# EAGLE library part USB-UART (library mastrogippo)
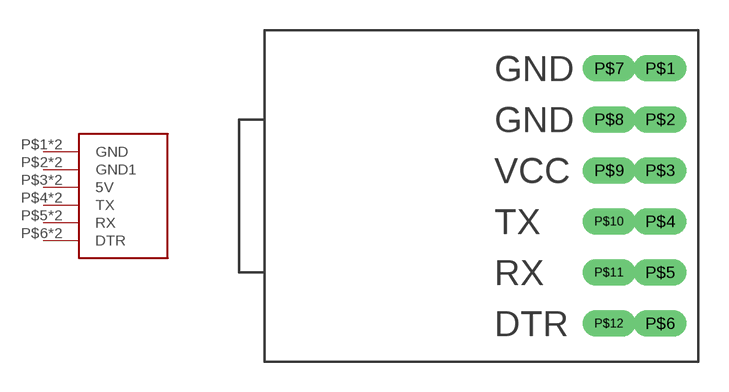
[diagram p9: symbol with the pads of USB-UART; footprint USB-UART]

Designator prefix -

## USB-UART  [USB-UART]
P$1  GND
P$2  GND1
P$3  5V
P$4  TX
P$5  RX
P$6  DTR
P$7  GND
P$8  GND1
P$9  5V
P$10  TX
P$11  RX
P$12  DTR

## Footprint USB-UART (pad centres in mm)
drill 0.8 long: P$1 8.255,6.35; P$2 8.255,3.81; P$3 8.255,1.27; P$4 8.255,-1.27; P$5 8.255,-3.81; P$6 8.255,-6.35; P$7 5.715,6.35; P$8 5.715,3.81; P$9 5.715,1.27; P$10 5.715,-1.27; P$11 5.715,-3.81; P$12 5.715,-6.35